# Altium integrated library Linear Technology Power Management Hot Swap Controllers.IntLib: 992 symbols (part 86 of 93)
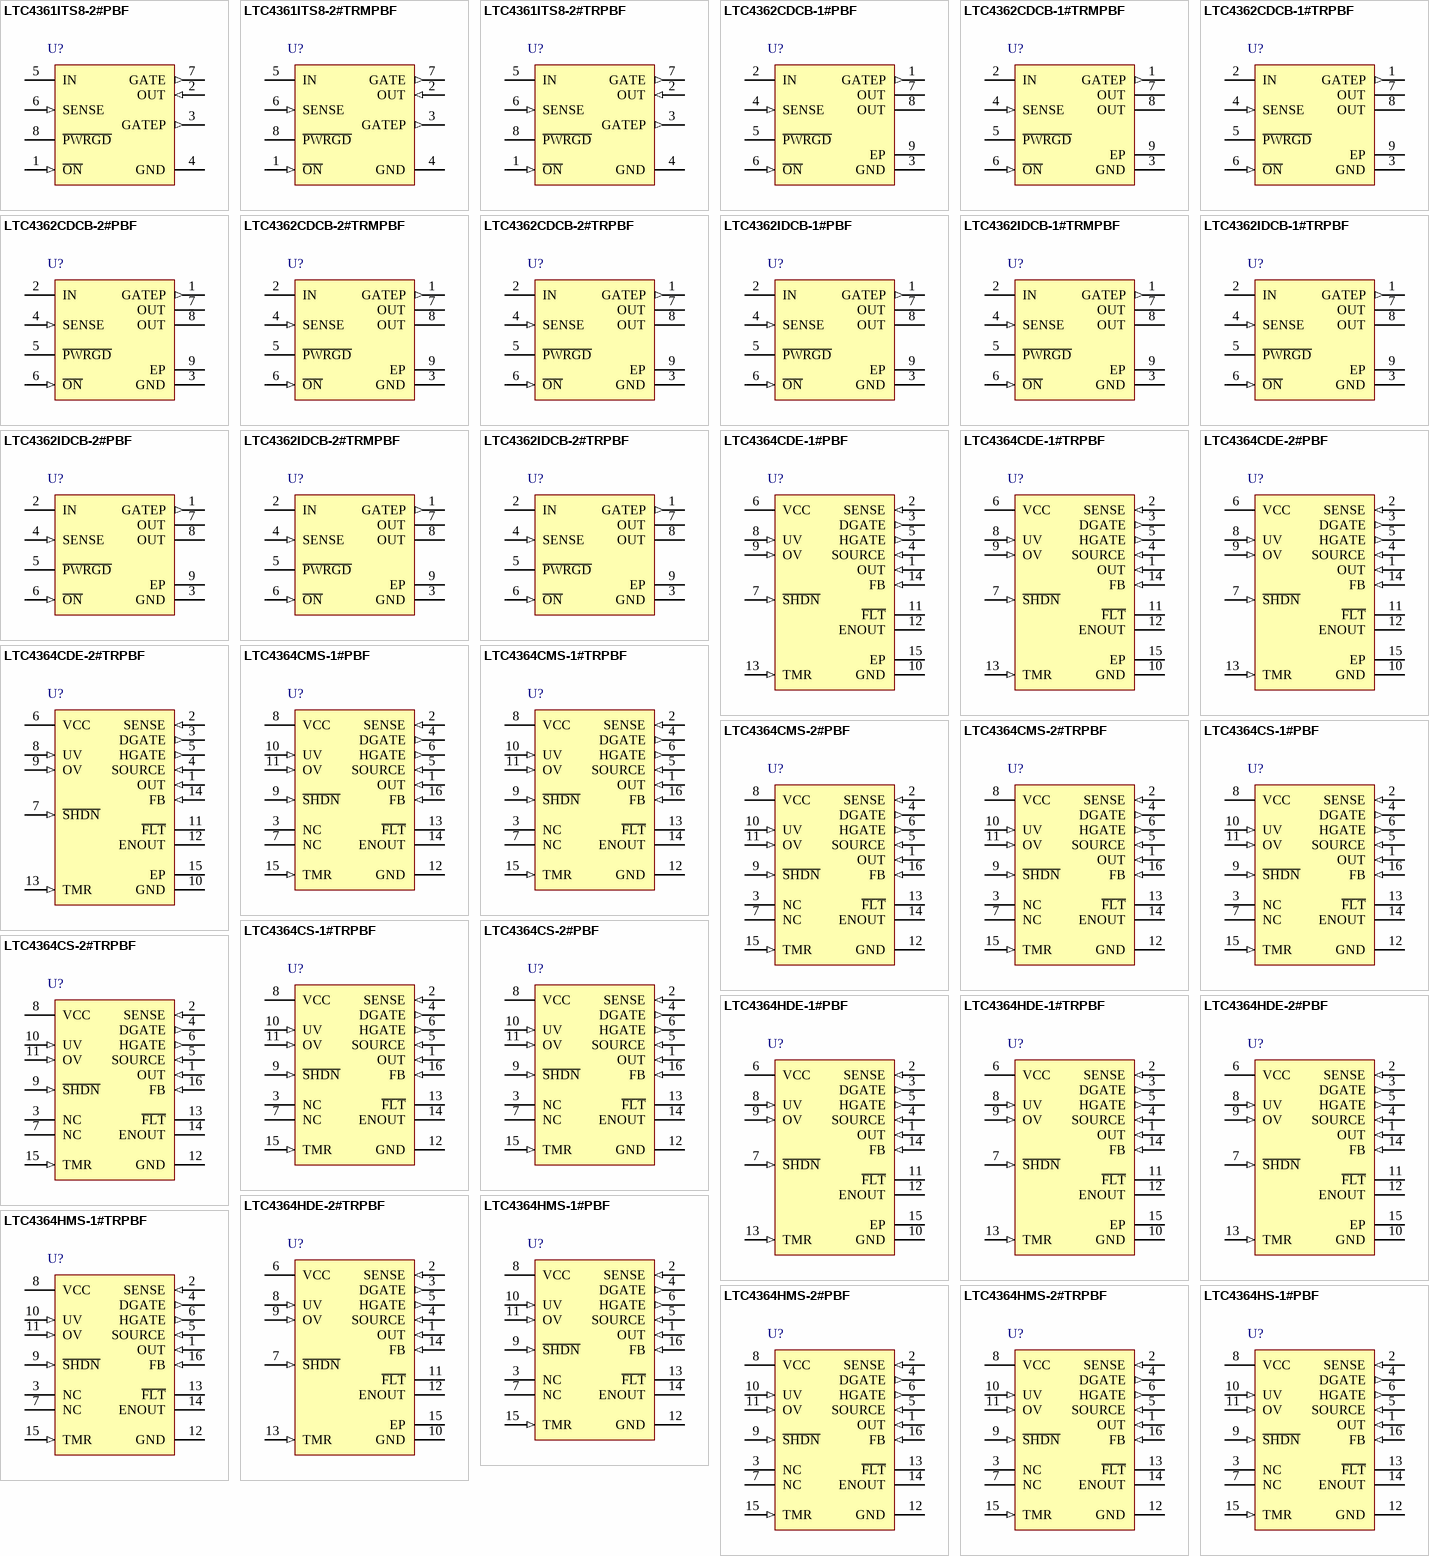
[diagram p122: symbols LTC4361ITS8-2#PBF to LTC4364HS-1#PBF]

## LTC4364CDE-2#TRPBF
designator U?
Surge Stopper with Ideal Diode, 4 to 80 V Vin, 14-pin SON (DE-14), 0 to 70 degC, Pb-Free, Tape and Reel; Manufacturer: Linear Technology; PartNumber: LTC4364CDE-2#TRPBF; Circuit Breaker Accuracy(%): 10; Circuit Breaker Threshold: 50 mV; Circuit Breakers(#): 1; Extended Temp: C, I, H; Fast Comparator: no; Vin Range: 4 to 80 V; PackageVersion: Rev. B, 06/2010; PackageReference: DE-14; PackageDescription: 14-Pin Plastic DFN, Body 4 x 3 mm, Pitch 0.5 mm; Supplier 1: Digi-Key; Supplier Part Number 1: LTC4364CDE-2#TRPBF-ND; Supplier 2: Newark; Supplier Part Number 2: 27W9462; Packing: Tape and Reel; Power Good: no; RoHS: TRUE; Mounting Technology: Surface Mount; Code_JEDEC: MO-229; ComponentLink1Description: Manufacturer URL; ComponentLink1URL: http://www.linear.com/; ComponentLink2Description: Datasheet; ComponentLink2URL: http://cds.linear.com/docs/en/datasheet/436412f.pdf; ComponentLink3Description: Package Specification; ComponentLink3URL: http://www.linear.com/docs/en/packaging/DFN_14_05-08-1708.pdf
footprint LT-DE-14_V (SON, 14-Leads, Body 4x3mm, Pitch 0.5mm, Thermal Pad 3.3x1.7mm)
pins: 1 OUT (in) "Output Voltage Sense Input. This pin senses the voltage at the drain of the external N-channel MOSFET connected to the DGATE pin. The voltage difference between VCC and OUT sets the fault timer current. When this difference (See Datasheet)", 2 SENSE (in) "Current Sense Input. Connect this pin to the input side of the current sense resistor. The current limit circuit controls the HGATE pin to limit the sense voltage between the SENSE and OUT pins to 50mV if OUT is above 2.5V. (See Datasheet)", 3 DGATE (out) "Diode Controller Gate Drive Output. When the load current creates more than 30mV of drop across the MOSFET, the DGATE pin is pulled high by an internal charge pump current source and clamped to 12V above the SOURCE pin. When (See Datasheet)", 4 SOURCE (in) "Common Source Input and Gate Drive Return. Connect this pin directly to the sources of the external back-to-back N-channel MOSFETs. SOURCE is the anode of the ideal diode and the voltage sensed between this pin and the SENSE (See Datasheet)", 5 HGATE (out) "Surge Stopper Gate Drive Output. The HGATE pin is pulled up by an internal charge pump current source and clamped to 12V above the SOURCE pin. Both voltage and current amplifiers control the HGATE pin to regulate the output (See Datasheet)", 6 VCC (power) "Positive Supply Voltage Input. The positive supply input ranges from 4V to 80V for normal operation. It can also be pulled below ground potential by up to 40V during a reverse battery condition, without damaging the part. (See Datasheet)", 7 ~{SHDN} (in) "Shutdown Control Input. Pulling the S\H\D\N\ pin below 0.5V shuts off the LTC4364 and reduces the VCC pin current to 10uA. Pull this pin above 2.2V or disconnect it to allow the internal current source to turn the part back (See Datasheet)", 8 UV (in) "Undervoltage Comparator Input. When the UV pin falls below its 1.25V threshold, the HGATE pin is pulled down with a 1mA current. When the UV pin rises above 1.25V plus the hysteresis, the HGATE pin is pulled up by the (See Datasheet)", 9 OV (in) "Overvoltage Comparator Input. When OV is above its threshold of 1.25V, the fault retry function is inhibited. When OV falls below its threshold, the HGATE pin is allowed to turn back on when fault conditions are cleared. At (See Datasheet)", 10 GND (power) "Device Ground.", 11 ~{FLT} (hiz) "Fault Output. An open-drain output that pulls low after the TMR pin reaches the warning threshold of 1.25V. It indicates the pass device controlled by the HGATE pin is about to turn off because either the supply voltage has (See Datasheet)", 12 ENOUT (hiz) "Enable Output. An open-drain output that goes high impedance when the voltage at the OUT pin is above (VCC - 0.7V), indicating the external MOSFETs are fully on. The state of the pin is latched and resets when the OUT pin (See Datasheet)", 13 TMR (in) "Fault Timer Input. Connect a capacitor between this pin and ground to set the times for fault warning, fault turn-off, and cool down periods. Either voltage regulation or current regulation starts pulling up the TMR pin. The (See Datasheet)", 14 FB (in) "Voltage Regulator Feedback Input. Connect this pin to the resistive divider connected between the OUT pin and ground. During an overvoltage condition, the HGATE pin is controlled to maintain 1.25V at the FB pin. Connect to (See Datasheet)", 15 EP (power) "Exposed pad may be left open or connected to device ground (GND)."

## LTC4364CMS-1#PBF
designator U?
Surge Stopper with Ideal Diode, 4 to 80 V Vin, 16-pin SOP (MS-16), 0 to 70 degC, Pb-Free; Manufacturer: Linear Technology; PartNumber: LTC4364CMS-1#PBF; Circuit Breaker Accuracy(%): 10; Circuit Breaker Threshold: 50 mV; Circuit Breakers(#): 1; Extended Temp: C, I, H; Fast Comparator: no; Vin Range: 4 to 80 V; PackageVersion: Rev. Ø, 06/2010; PackageReference: MS16; PackageDescription: 16-Pin Plastic MSOP, Body 4.04 x 3.00 mm, Pitch 0.50 mm; Supplier 1: Digi-Key; Supplier Part Number 1: LTC4364CMS-1#PBF-ND; Supplier 2: Newark; Supplier Part Number 2: 27W9463; Power Good: no; RoHS: TRUE; Mounting Technology: Surface Mount; ComponentLink1Description: Manufacturer URL; ComponentLink1URL: http://www.linear.com/; ComponentLink2Description: Datasheet; ComponentLink2URL: http://cds.linear.com/docs/en/datasheet/436412f.pdf; ComponentLink3Description: Package Specification; ComponentLink3URL: http://cds.linear.com/docs/en/packaging/05081669_A_MS16.pdf
footprint LT-MS-16_N (SOP, 16-Leads, Body 4.1x3.1mm, Pitch 0.5mm, IPC Medium Density)
footprint LT-MS-16_L (SOP, 16-Leads, Body 4.1x3.1mm, Pitch 0.5mm, IPC High Density)
footprint LT-MS-16_M (SOP, 16-Leads, Body 4.1x3.1mm, Pitch 0.5mm, IPC Low Density)
pins: 1 OUT (in) "Output Voltage Sense Input. This pin senses the voltage at the drain of the external N-channel MOSFET connected to the DGATE pin. The voltage difference between VCC and OUT sets the fault timer current. When this difference (See Datasheet)", 2 SENSE (in) "Current Sense Input. Connect this pin to the input side of the current sense resistor. The current limit circuit controls the HGATE pin to limit the sense voltage between the SENSE and OUT pins to 50mV if OUT is above 2.5V. (See Datasheet)", 3 NC, 4 DGATE (out) "Diode Controller Gate Drive Output. When the load current creates more than 30mV of drop across the MOSFET, the DGATE pin is pulled high by an internal charge pump current source and clamped to 12V above the SOURCE pin. When (See Datasheet)", 5 SOURCE (in) "Common Source Input and Gate Drive Return. Connect this pin directly to the sources of the external back-to-back N-channel MOSFETs. SOURCE is the anode of the ideal diode and the voltage sensed between this pin and the SENSE (See Datasheet)", 6 HGATE (out) "Surge Stopper Gate Drive Output. The HGATE pin is pulled up by an internal charge pump current source and clamped to 12V above the SOURCE pin. Both voltage and current amplifiers control the HGATE pin to regulate the output (See Datasheet)", 7 NC, 8 VCC (power) "Positive Supply Voltage Input. The positive supply input ranges from 4V to 80V for normal operation. It can also be pulled below ground potential by up to 40V during a reverse battery condition, without damaging the part. (See Datasheet)", 9 ~{SHDN} (in) "Shutdown Control Input. Pulling the S\H\D\N\ pin below 0.5V shuts off the LTC4364 and reduces the VCC pin current to 10uA. Pull this pin above 2.2V or disconnect it to allow the internal current source to turn the part back (See Datasheet)", 10 UV (in) "Undervoltage Comparator Input. When the UV pin falls below its 1.25V threshold, the HGATE pin is pulled down with a 1mA current. When the UV pin rises above 1.25V plus the hysteresis, the HGATE pin is pulled up by the (See Datasheet)", 11 OV (in) "Overvoltage Comparator Input. When OV is above its threshold of 1.25V, the fault retry function is inhibited. When OV falls below its threshold, the HGATE pin is allowed to turn back on when fault conditions are cleared. At (See Datasheet)", 12 GND (power) "Device Ground.", 13 ~{FLT} (hiz) "Fault Output. An open-drain output that pulls low after the TMR pin reaches the warning threshold of 1.25V. It indicates the pass device controlled by the HGATE pin is about to turn off because either the supply voltage has (See Datasheet)", 14 ENOUT (hiz) "Enable Output. An open-drain output that goes high impedance when the voltage at the OUT pin is above (VCC - 0.7V), indicating the external MOSFETs are fully on. The state of the pin is latched and resets when the OUT pin (See Datasheet)", 15 TMR (in) "Fault Timer Input. Connect a capacitor between this pin and ground to set the times for fault warning, fault turn-off, and cool down periods. Either voltage regulation or current regulation starts pulling up the TMR pin. The (See Datasheet)", 16 FB (in) "Voltage Regulator Feedback Input. Connect this pin to the resistive divider connected between the OUT pin and ground. During an overvoltage condition, the HGATE pin is controlled to maintain 1.25V at the FB pin. Connect to (See Datasheet)"

## LTC4364CMS-1#TRPBF
designator U?
Surge Stopper with Ideal Diode, 4 to 80 V Vin, 16-pin SOP (MS-16), 0 to 70 degC, Pb-Free, Tape and Reel; Manufacturer: Linear Technology; PartNumber: LTC4364CMS-1#TRPBF; Circuit Breaker Accuracy(%): 10; Circuit Breaker Threshold: 50 mV; Circuit Breakers(#): 1; Extended Temp: C, I, H; Fast Comparator: no; Vin Range: 4 to 80 V; PackageVersion: Rev. Ø, 06/2010; PackageReference: MS16; PackageDescription: 16-Pin Plastic MSOP, Body 4.04 x 3.00 mm, Pitch 0.50 mm; Supplier 1: Digi-Key; Supplier Part Number 1: LTC4364CMS-1#TRPBF-ND; Supplier 2: Newark; Supplier Part Number 2: 27W9464; Packing: Tape and Reel; Power Good: no; RoHS: TRUE; Mounting Technology: Surface Mount; ComponentLink1Description: Manufacturer URL; ComponentLink1URL: http://www.linear.com/; ComponentLink2Description: Datasheet; ComponentLink2URL: http://cds.linear.com/docs/en/datasheet/436412f.pdf; ComponentLink3Description: Package Specification; ComponentLink3URL: http://cds.linear.com/docs/en/packaging/05081669_A_MS16.pdf
footprint LT-MS-16_N (SOP, 16-Leads, Body 4.1x3.1mm, Pitch 0.5mm, IPC Medium Density)
footprint LT-MS-16_L (SOP, 16-Leads, Body 4.1x3.1mm, Pitch 0.5mm, IPC High Density)
footprint LT-MS-16_M (SOP, 16-Leads, Body 4.1x3.1mm, Pitch 0.5mm, IPC Low Density)
pins: 1 OUT (in) "Output Voltage Sense Input. This pin senses the voltage at the drain of the external N-channel MOSFET connected to the DGATE pin. The voltage difference between VCC and OUT sets the fault timer current. When this difference (See Datasheet)", 2 SENSE (in) "Current Sense Input. Connect this pin to the input side of the current sense resistor. The current limit circuit controls the HGATE pin to limit the sense voltage between the SENSE and OUT pins to 50mV if OUT is above 2.5V. (See Datasheet)", 3 NC, 4 DGATE (out) "Diode Controller Gate Drive Output. When the load current creates more than 30mV of drop across the MOSFET, the DGATE pin is pulled high by an internal charge pump current source and clamped to 12V above the SOURCE pin. When (See Datasheet)", 5 SOURCE (in) "Common Source Input and Gate Drive Return. Connect this pin directly to the sources of the external back-to-back N-channel MOSFETs. SOURCE is the anode of the ideal diode and the voltage sensed between this pin and the SENSE (See Datasheet)", 6 HGATE (out) "Surge Stopper Gate Drive Output. The HGATE pin is pulled up by an internal charge pump current source and clamped to 12V above the SOURCE pin. Both voltage and current amplifiers control the HGATE pin to regulate the output (See Datasheet)", 7 NC, 8 VCC (power) "Positive Supply Voltage Input. The positive supply input ranges from 4V to 80V for normal operation. It can also be pulled below ground potential by up to 40V during a reverse battery condition, without damaging the part. (See Datasheet)", 9 ~{SHDN} (in) "Shutdown Control Input. Pulling the S\H\D\N\ pin below 0.5V shuts off the LTC4364 and reduces the VCC pin current to 10uA. Pull this pin above 2.2V or disconnect it to allow the internal current source to turn the part back (See Datasheet)", 10 UV (in) "Undervoltage Comparator Input. When the UV pin falls below its 1.25V threshold, the HGATE pin is pulled down with a 1mA current. When the UV pin rises above 1.25V plus the hysteresis, the HGATE pin is pulled up by the (See Datasheet)", 11 OV (in) "Overvoltage Comparator Input. When OV is above its threshold of 1.25V, the fault retry function is inhibited. When OV falls below its threshold, the HGATE pin is allowed to turn back on when fault conditions are cleared. At (See Datasheet)", 12 GND (power) "Device Ground.", 13 ~{FLT} (hiz) "Fault Output. An open-drain output that pulls low after the TMR pin reaches the warning threshold of 1.25V. It indicates the pass device controlled by the HGATE pin is about to turn off because either the supply voltage has (See Datasheet)", 14 ENOUT (hiz) "Enable Output. An open-drain output that goes high impedance when the voltage at the OUT pin is above (VCC - 0.7V), indicating the external MOSFETs are fully on. The state of the pin is latched and resets when the OUT pin (See Datasheet)", 15 TMR (in) "Fault Timer Input. Connect a capacitor between this pin and ground to set the times for fault warning, fault turn-off, and cool down periods. Either voltage regulation or current regulation starts pulling up the TMR pin. The (See Datasheet)", 16 FB (in) "Voltage Regulator Feedback Input. Connect this pin to the resistive divider connected between the OUT pin and ground. During an overvoltage condition, the HGATE pin is controlled to maintain 1.25V at the FB pin. Connect to (See Datasheet)"

## LTC4364CMS-2#PBF
designator U?
Surge Stopper with Ideal Diode, 4 to 80 V Vin, 16-pin SOP (MS-16), 0 to 70 degC, Pb-Free; Manufacturer: Linear Technology; PartNumber: LTC4364CMS-2#PBF; Circuit Breaker Accuracy(%): 10; Circuit Breaker Threshold: 50 mV; Circuit Breakers(#): 1; Extended Temp: C, I, H; Fast Comparator: no; Vin Range: 4 to 80 V; PackageVersion: Rev. Ø, 06/2010; PackageReference: MS16; PackageDescription: 16-Pin Plastic MSOP, Body 4.04 x 3.00 mm, Pitch 0.50 mm; Supplier 1: Digi-Key; Supplier Part Number 1: LTC4364CMS-2#PBF-ND; Supplier 2: Newark; Supplier Part Number 2: 27W9465; Power Good: no; RoHS: TRUE; Mounting Technology: Surface Mount; ComponentLink1Description: Manufacturer URL; ComponentLink1URL: http://www.linear.com/; ComponentLink2Description: Datasheet; ComponentLink2URL: http://cds.linear.com/docs/en/datasheet/436412f.pdf; ComponentLink3Description: Package Specification; ComponentLink3URL: http://cds.linear.com/docs/en/packaging/05081669_A_MS16.pdf
footprint LT-MS-16_N (SOP, 16-Leads, Body 4.1x3.1mm, Pitch 0.5mm, IPC Medium Density)
footprint LT-MS-16_L (SOP, 16-Leads, Body 4.1x3.1mm, Pitch 0.5mm, IPC High Density)
footprint LT-MS-16_M (SOP, 16-Leads, Body 4.1x3.1mm, Pitch 0.5mm, IPC Low Density)
pins: 1 OUT (in) "Output Voltage Sense Input. This pin senses the voltage at the drain of the external N-channel MOSFET connected to the DGATE pin. The voltage difference between VCC and OUT sets the fault timer current. When this difference (See Datasheet)", 2 SENSE (in) "Current Sense Input. Connect this pin to the input side of the current sense resistor. The current limit circuit controls the HGATE pin to limit the sense voltage between the SENSE and OUT pins to 50mV if OUT is above 2.5V. (See Datasheet)", 3 NC, 4 DGATE (out) "Diode Controller Gate Drive Output. When the load current creates more than 30mV of drop across the MOSFET, the DGATE pin is pulled high by an internal charge pump current source and clamped to 12V above the SOURCE pin. When (See Datasheet)", 5 SOURCE (in) "Common Source Input and Gate Drive Return. Connect this pin directly to the sources of the external back-to-back N-channel MOSFETs. SOURCE is the anode of the ideal diode and the voltage sensed between this pin and the SENSE (See Datasheet)", 6 HGATE (out) "Surge Stopper Gate Drive Output. The HGATE pin is pulled up by an internal charge pump current source and clamped to 12V above the SOURCE pin. Both voltage and current amplifiers control the HGATE pin to regulate the output (See Datasheet)", 7 NC, 8 VCC (power) "Positive Supply Voltage Input. The positive supply input ranges from 4V to 80V for normal operation. It can also be pulled below ground potential by up to 40V during a reverse battery condition, without damaging the part. (See Datasheet)", 9 ~{SHDN} (in) "Shutdown Control Input. Pulling the S\H\D\N\ pin below 0.5V shuts off the LTC4364 and reduces the VCC pin current to 10uA. Pull this pin above 2.2V or disconnect it to allow the internal current source to turn the part back (See Datasheet)", 10 UV (in) "Undervoltage Comparator Input. When the UV pin falls below its 1.25V threshold, the HGATE pin is pulled down with a 1mA current. When the UV pin rises above 1.25V plus the hysteresis, the HGATE pin is pulled up by the (See Datasheet)", 11 OV (in) "Overvoltage Comparator Input. When OV is above its threshold of 1.25V, the fault retry function is inhibited. When OV falls below its threshold, the HGATE pin is allowed to turn back on when fault conditions are cleared. At (See Datasheet)", 12 GND (power) "Device Ground.", 13 ~{FLT} (hiz) "Fault Output. An open-drain output that pulls low after the TMR pin reaches the warning threshold of 1.25V. It indicates the pass device controlled by the HGATE pin is about to turn off because either the supply voltage has (See Datasheet)", 14 ENOUT (hiz) "Enable Output. An open-drain output that goes high impedance when the voltage at the OUT pin is above (VCC - 0.7V), indicating the external MOSFETs are fully on. The state of the pin is latched and resets when the OUT pin (See Datasheet)", 15 TMR (in) "Fault Timer Input. Connect a capacitor between this pin and ground to set the times for fault warning, fault turn-off, and cool down periods. Either voltage regulation or current regulation starts pulling up the TMR pin. The (See Datasheet)", 16 FB (in) "Voltage Regulator Feedback Input. Connect this pin to the resistive divider connected between the OUT pin and ground. During an overvoltage condition, the HGATE pin is controlled to maintain 1.25V at the FB pin. Connect to (See Datasheet)"

## LTC4364CMS-2#TRPBF
designator U?
Surge Stopper with Ideal Diode, 4 to 80 V Vin, 16-pin SOP (MS-16), 0 to 70 degC, Pb-Free, Tape and Reel; Manufacturer: Linear Technology; PartNumber: LTC4364CMS-2#TRPBF; Circuit Breaker Accuracy(%): 10; Circuit Breaker Threshold: 50 mV; Circuit Breakers(#): 1; Extended Temp: C, I, H; Fast Comparator: no; Vin Range: 4 to 80 V; PackageVersion: Rev. Ø, 06/2010; PackageReference: MS16; PackageDescription: 16-Pin Plastic MSOP, Body 4.04 x 3.00 mm, Pitch 0.50 mm; Supplier 1: Digi-Key; Supplier Part Number 1: LTC4364CMS-2#TRPBF-ND; Supplier 2: Newark; Supplier Part Number 2: 27W9466; Packing: Tape and Reel; Power Good: no; RoHS: TRUE; Mounting Technology: Surface Mount; ComponentLink1Description: Manufacturer URL; ComponentLink1URL: http://www.linear.com/; ComponentLink2Description: Datasheet; ComponentLink2URL: http://cds.linear.com/docs/en/datasheet/436412f.pdf; ComponentLink3Description: Package Specification; ComponentLink3URL: http://cds.linear.com/docs/en/packaging/05081669_A_MS16.pdf
footprint LT-MS-16_N (SOP, 16-Leads, Body 4.1x3.1mm, Pitch 0.5mm, IPC Medium Density)
footprint LT-MS-16_L (SOP, 16-Leads, Body 4.1x3.1mm, Pitch 0.5mm, IPC High Density)
footprint LT-MS-16_M (SOP, 16-Leads, Body 4.1x3.1mm, Pitch 0.5mm, IPC Low Density)
pins: 1 OUT (in) "Output Voltage Sense Input. This pin senses the voltage at the drain of the external N-channel MOSFET connected to the DGATE pin. The voltage difference between VCC and OUT sets the fault timer current. When this difference (See Datasheet)", 2 SENSE (in) "Current Sense Input. Connect this pin to the input side of the current sense resistor. The current limit circuit controls the HGATE pin to limit the sense voltage between the SENSE and OUT pins to 50mV if OUT is above 2.5V. (See Datasheet)", 3 NC, 4 DGATE (out) "Diode Controller Gate Drive Output. When the load current creates more than 30mV of drop across the MOSFET, the DGATE pin is pulled high by an internal charge pump current source and clamped to 12V above the SOURCE pin. When (See Datasheet)", 5 SOURCE (in) "Common Source Input and Gate Drive Return. Connect this pin directly to the sources of the external back-to-back N-channel MOSFETs. SOURCE is the anode of the ideal diode and the voltage sensed between this pin and the SENSE (See Datasheet)", 6 HGATE (out) "Surge Stopper Gate Drive Output. The HGATE pin is pulled up by an internal charge pump current source and clamped to 12V above the SOURCE pin. Both voltage and current amplifiers control the HGATE pin to regulate the output (See Datasheet)", 7 NC, 8 VCC (power) "Positive Supply Voltage Input. The positive supply input ranges from 4V to 80V for normal operation. It can also be pulled below ground potential by up to 40V during a reverse battery condition, without damaging the part. (See Datasheet)", 9 ~{SHDN} (in) "Shutdown Control Input. Pulling the S\H\D\N\ pin below 0.5V shuts off the LTC4364 and reduces the VCC pin current to 10uA. Pull this pin above 2.2V or disconnect it to allow the internal current source to turn the part back (See Datasheet)", 10 UV (in) "Undervoltage Comparator Input. When the UV pin falls below its 1.25V threshold, the HGATE pin is pulled down with a 1mA current. When the UV pin rises above 1.25V plus the hysteresis, the HGATE pin is pulled up by the (See Datasheet)", 11 OV (in) "Overvoltage Comparator Input. When OV is above its threshold of 1.25V, the fault retry function is inhibited. When OV falls below its threshold, the HGATE pin is allowed to turn back on when fault conditions are cleared. At (See Datasheet)", 12 GND (power) "Device Ground.", 13 ~{FLT} (hiz) "Fault Output. An open-drain output that pulls low after the TMR pin reaches the warning threshold of 1.25V. It indicates the pass device controlled by the HGATE pin is about to turn off because either the supply voltage has (See Datasheet)", 14 ENOUT (hiz) "Enable Output. An open-drain output that goes high impedance when the voltage at the OUT pin is above (VCC - 0.7V), indicating the external MOSFETs are fully on. The state of the pin is latched and resets when the OUT pin (See Datasheet)", 15 TMR (in) "Fault Timer Input. Connect a capacitor between this pin and ground to set the times for fault warning, fault turn-off, and cool down periods. Either voltage regulation or current regulation starts pulling up the TMR pin. The (See Datasheet)", 16 FB (in) "Voltage Regulator Feedback Input. Connect this pin to the resistive divider connected between the OUT pin and ground. During an overvoltage condition, the HGATE pin is controlled to maintain 1.25V at the FB pin. Connect to (See Datasheet)"

## LTC4364CS-1#PBF
designator U?
Surge Stopper with Ideal Diode, 4 to 80 V Vin, 16-pin SOP (S-16), 0 to 70 degC, Pb-Free; Manufacturer: Linear Technology; PartNumber: LTC4364CS-1#PBF; Circuit Breaker Accuracy(%): 10; Circuit Breaker Threshold: 50 mV; Circuit Breakers(#): 1; Extended Temp: C, I, H; Fast Comparator: no; Vin Range: 4 to 80 V; PackageVersion: Rev. G, 05/2012; PackageReference: S-16; PackageDescription: 16-Pin Plastic Small Outline, Body 9.9 x 3.9 mm, Pitch 1.27 mm; Supplier 1: Digi-Key; Supplier Part Number 1: LTC4364CS-1#PBF-ND; Supplier 2: Newark; Supplier Part Number 2: 27W9467; Power Good: no; RoHS: TRUE; Mounting Technology: Surface Mount; ComponentLink1Description: Manufacturer URL; ComponentLink1URL: http://www.linear.com/; ComponentLink2Description: Datasheet; ComponentLink2URL: http://cds.linear.com/docs/en/datasheet/436412f.pdf; ComponentLink3Description: Package Specification; ComponentLink3URL: http://cds.linear.com/docs/en/packaging/S16%2005-08-1610%20Rev%20G.pdf
footprint LT-S-16_N (SOP, 16-Leads, Body 10x4mm, Pitch 1.27mm, IPC Medium Density)
footprint LT-S-16_L (SOP, 16-Leads, Body 10x4mm, Pitch 1.27mm, IPC High Density)
footprint LT-S-16_M (SOP, 16-Leads, Body 10x4mm, Pitch 1.27mm, IPC Low Density)
pins: 1 OUT (in) "Output Voltage Sense Input. This pin senses the voltage at the drain of the external N-channel MOSFET connected to the DGATE pin. The voltage difference between VCC and OUT sets the fault timer current. When this difference (See Datasheet)", 2 SENSE (in) "Current Sense Input. Connect this pin to the input side of the current sense resistor. The current limit circuit controls the HGATE pin to limit the sense voltage between the SENSE and OUT pins to 50mV if OUT is above 2.5V. (See Datasheet)", 3 NC, 4 DGATE (out) "Diode Controller Gate Drive Output. When the load current creates more than 30mV of drop across the MOSFET, the DGATE pin is pulled high by an internal charge pump current source and clamped to 12V above the SOURCE pin. When (See Datasheet)", 5 SOURCE (in) "Common Source Input and Gate Drive Return. Connect this pin directly to the sources of the external back-to-back N-channel MOSFETs. SOURCE is the anode of the ideal diode and the voltage sensed between this pin and the SENSE (See Datasheet)", 6 HGATE (out) "Surge Stopper Gate Drive Output. The HGATE pin is pulled up by an internal charge pump current source and clamped to 12V above the SOURCE pin. Both voltage and current amplifiers control the HGATE pin to regulate the output (See Datasheet)", 7 NC, 8 VCC (power) "Positive Supply Voltage Input. The positive supply input ranges from 4V to 80V for normal operation. It can also be pulled below ground potential by up to 40V during a reverse battery condition, without damaging the part. (See Datasheet)", 9 ~{SHDN} (in) "Shutdown Control Input. Pulling the S\H\D\N\ pin below 0.5V shuts off the LTC4364 and reduces the VCC pin current to 10uA. Pull this pin above 2.2V or disconnect it to allow the internal current source to turn the part back (See Datasheet)", 10 UV (in) "Undervoltage Comparator Input. When the UV pin falls below its 1.25V threshold, the HGATE pin is pulled down with a 1mA current. When the UV pin rises above 1.25V plus the hysteresis, the HGATE pin is pulled up by the (See Datasheet)", 11 OV (in) "Overvoltage Comparator Input. When OV is above its threshold of 1.25V, the fault retry function is inhibited. When OV falls below its threshold, the HGATE pin is allowed to turn back on when fault conditions are cleared. At (See Datasheet)", 12 GND (power) "Device Ground.", 13 ~{FLT} (hiz) "Fault Output. An open-drain output that pulls low after the TMR pin reaches the warning threshold of 1.25V. It indicates the pass device controlled by the HGATE pin is about to turn off because either the supply voltage has (See Datasheet)", 14 ENOUT (hiz) "Enable Output. An open-drain output that goes high impedance when the voltage at the OUT pin is above (VCC - 0.7V), indicating the external MOSFETs are fully on. The state of the pin is latched and resets when the OUT pin (See Datasheet)", 15 TMR (in) "Fault Timer Input. Connect a capacitor between this pin and ground to set the times for fault warning, fault turn-off, and cool down periods. Either voltage regulation or current regulation starts pulling up the TMR pin. The (See Datasheet)", 16 FB (in) "Voltage Regulator Feedback Input. Connect this pin to the resistive divider connected between the OUT pin and ground. During an overvoltage condition, the HGATE pin is controlled to maintain 1.25V at the FB pin. Connect to (See Datasheet)"

## LTC4364CS-1#TRPBF
designator U?
Surge Stopper with Ideal Diode, 4 to 80 V Vin, 16-pin SOP (S-16), 0 to 70 degC, Pb-Free, Tape and Reel; Manufacturer: Linear Technology; PartNumber: LTC4364CS-1#TRPBF; Circuit Breaker Accuracy(%): 10; Circuit Breaker Threshold: 50 mV; Circuit Breakers(#): 1; Extended Temp: C, I, H; Fast Comparator: no; Vin Range: 4 to 80 V; PackageVersion: Rev. G, 05/2012; PackageReference: S-16; PackageDescription: 16-Pin Plastic Small Outline, Body 9.9 x 3.9 mm, Pitch 1.27 mm; Supplier 1: Digi-Key; Supplier Part Number 1: LTC4364CS-1#TRPBF-ND; Supplier 2: Newark; Supplier Part Number 2: 27W9468; Packing: Tape and Reel; Power Good: no; RoHS: TRUE; Mounting Technology: Surface Mount; ComponentLink1Description: Manufacturer URL; ComponentLink1URL: http://www.linear.com/; ComponentLink2Description: Datasheet; ComponentLink2URL: http://cds.linear.com/docs/en/datasheet/436412f.pdf; ComponentLink3Description: Package Specification; ComponentLink3URL: http://cds.linear.com/docs/en/packaging/S16%2005-08-1610%20Rev%20G.pdf
footprint LT-S-16_N (SOP, 16-Leads, Body 10x4mm, Pitch 1.27mm, IPC Medium Density)
footprint LT-S-16_L (SOP, 16-Leads, Body 10x4mm, Pitch 1.27mm, IPC High Density)
footprint LT-S-16_M (SOP, 16-Leads, Body 10x4mm, Pitch 1.27mm, IPC Low Density)
pins: 1 OUT (in) "Output Voltage Sense Input. This pin senses the voltage at the drain of the external N-channel MOSFET connected to the DGATE pin. The voltage difference between VCC and OUT sets the fault timer current. When this difference (See Datasheet)", 2 SENSE (in) "Current Sense Input. Connect this pin to the input side of the current sense resistor. The current limit circuit controls the HGATE pin to limit the sense voltage between the SENSE and OUT pins to 50mV if OUT is above 2.5V. (See Datasheet)", 3 NC, 4 DGATE (out) "Diode Controller Gate Drive Output. When the load current creates more than 30mV of drop across the MOSFET, the DGATE pin is pulled high by an internal charge pump current source and clamped to 12V above the SOURCE pin. When (See Datasheet)", 5 SOURCE (in) "Common Source Input and Gate Drive Return. Connect this pin directly to the sources of the external back-to-back N-channel MOSFETs. SOURCE is the anode of the ideal diode and the voltage sensed between this pin and the SENSE (See Datasheet)", 6 HGATE (out) "Surge Stopper Gate Drive Output. The HGATE pin is pulled up by an internal charge pump current source and clamped to 12V above the SOURCE pin. Both voltage and current amplifiers control the HGATE pin to regulate the output (See Datasheet)", 7 NC, 8 VCC (power) "Positive Supply Voltage Input. The positive supply input ranges from 4V to 80V for normal operation. It can also be pulled below ground potential by up to 40V during a reverse battery condition, without damaging the part. (See Datasheet)", 9 ~{SHDN} (in) "Shutdown Control Input. Pulling the S\H\D\N\ pin below 0.5V shuts off the LTC4364 and reduces the VCC pin current to 10uA. Pull this pin above 2.2V or disconnect it to allow the internal current source to turn the part back (See Datasheet)", 10 UV (in) "Undervoltage Comparator Input. When the UV pin falls below its 1.25V threshold, the HGATE pin is pulled down with a 1mA current. When the UV pin rises above 1.25V plus the hysteresis, the HGATE pin is pulled up by the (See Datasheet)", 11 OV (in) "Overvoltage Comparator Input. When OV is above its threshold of 1.25V, the fault retry function is inhibited. When OV falls below its threshold, the HGATE pin is allowed to turn back on when fault conditions are cleared. At (See Datasheet)", 12 GND (power) "Device Ground.", 13 ~{FLT} (hiz) "Fault Output. An open-drain output that pulls low after the TMR pin reaches the warning threshold of 1.25V. It indicates the pass device controlled by the HGATE pin is about to turn off because either the supply voltage has (See Datasheet)", 14 ENOUT (hiz) "Enable Output. An open-drain output that goes high impedance when the voltage at the OUT pin is above (VCC - 0.7V), indicating the external MOSFETs are fully on. The state of the pin is latched and resets when the OUT pin (See Datasheet)", 15 TMR (in) "Fault Timer Input. Connect a capacitor between this pin and ground to set the times for fault warning, fault turn-off, and cool down periods. Either voltage regulation or current regulation starts pulling up the TMR pin. The (See Datasheet)", 16 FB (in) "Voltage Regulator Feedback Input. Connect this pin to the resistive divider connected between the OUT pin and ground. During an overvoltage condition, the HGATE pin is controlled to maintain 1.25V at the FB pin. Connect to (See Datasheet)"

## LTC4364CS-2#PBF
designator U?
Surge Stopper with Ideal Diode, 4 to 80 V Vin, 16-pin SOP (S-16), 0 to 70 degC, Pb-Free; Manufacturer: Linear Technology; PartNumber: LTC4364CS-2#PBF; Circuit Breaker Accuracy(%): 10; Circuit Breaker Threshold: 50 mV; Circuit Breakers(#): 1; Extended Temp: C, I, H; Fast Comparator: no; Vin Range: 4 to 80 V; PackageVersion: Rev. G, 05/2012; PackageReference: S-16; PackageDescription: 16-Pin Plastic Small Outline, Body 9.9 x 3.9 mm, Pitch 1.27 mm; Supplier 1: Digi-Key; Supplier Part Number 1: LTC4364CS-2#PBF-ND; Supplier 2: Newark; Supplier Part Number 2: 27W9469; Power Good: no; RoHS: TRUE; Mounting Technology: Surface Mount; ComponentLink1Description: Manufacturer URL; ComponentLink1URL: http://www.linear.com/; ComponentLink2Description: Datasheet; ComponentLink2URL: http://cds.linear.com/docs/en/datasheet/436412f.pdf; ComponentLink3Description: Package Specification; ComponentLink3URL: http://cds.linear.com/docs/en/packaging/S16%2005-08-1610%20Rev%20G.pdf
footprint LT-S-16_N (SOP, 16-Leads, Body 10x4mm, Pitch 1.27mm, IPC Medium Density)
footprint LT-S-16_L (SOP, 16-Leads, Body 10x4mm, Pitch 1.27mm, IPC High Density)
footprint LT-S-16_M (SOP, 16-Leads, Body 10x4mm, Pitch 1.27mm, IPC Low Density)
pins: 1 OUT (in) "Output Voltage Sense Input. This pin senses the voltage at the drain of the external N-channel MOSFET connected to the DGATE pin. The voltage difference between VCC and OUT sets the fault timer current. When this difference (See Datasheet)", 2 SENSE (in) "Current Sense Input. Connect this pin to the input side of the current sense resistor. The current limit circuit controls the HGATE pin to limit the sense voltage between the SENSE and OUT pins to 50mV if OUT is above 2.5V. (See Datasheet)", 3 NC, 4 DGATE (out) "Diode Controller Gate Drive Output. When the load current creates more than 30mV of drop across the MOSFET, the DGATE pin is pulled high by an internal charge pump current source and clamped to 12V above the SOURCE pin. When (See Datasheet)", 5 SOURCE (in) "Common Source Input and Gate Drive Return. Connect this pin directly to the sources of the external back-to-back N-channel MOSFETs. SOURCE is the anode of the ideal diode and the voltage sensed between this pin and the SENSE (See Datasheet)", 6 HGATE (out) "Surge Stopper Gate Drive Output. The HGATE pin is pulled up by an internal charge pump current source and clamped to 12V above the SOURCE pin. Both voltage and current amplifiers control the HGATE pin to regulate the output (See Datasheet)", 7 NC, 8 VCC (power) "Positive Supply Voltage Input. The positive supply input ranges from 4V to 80V for normal operation. It can also be pulled below ground potential by up to 40V during a reverse battery condition, without damaging the part. (See Datasheet)", 9 ~{SHDN} (in) "Shutdown Control Input. Pulling the S\H\D\N\ pin below 0.5V shuts off the LTC4364 and reduces the VCC pin current to 10uA. Pull this pin above 2.2V or disconnect it to allow the internal current source to turn the part back (See Datasheet)", 10 UV (in) "Undervoltage Comparator Input. When the UV pin falls below its 1.25V threshold, the HGATE pin is pulled down with a 1mA current. When the UV pin rises above 1.25V plus the hysteresis, the HGATE pin is pulled up by the (See Datasheet)", 11 OV (in) "Overvoltage Comparator Input. When OV is above its threshold of 1.25V, the fault retry function is inhibited. When OV falls below its threshold, the HGATE pin is allowed to turn back on when fault conditions are cleared. At (See Datasheet)", 12 GND (power) "Device Ground.", 13 ~{FLT} (hiz) "Fault Output. An open-drain output that pulls low after the TMR pin reaches the warning threshold of 1.25V. It indicates the pass device controlled by the HGATE pin is about to turn off because either the supply voltage has (See Datasheet)", 14 ENOUT (hiz) "Enable Output. An open-drain output that goes high impedance when the voltage at the OUT pin is above (VCC - 0.7V), indicating the external MOSFETs are fully on. The state of the pin is latched and resets when the OUT pin (See Datasheet)", 15 TMR (in) "Fault Timer Input. Connect a capacitor between this pin and ground to set the times for fault warning, fault turn-off, and cool down periods. Either voltage regulation or current regulation starts pulling up the TMR pin. The (See Datasheet)", 16 FB (in) "Voltage Regulator Feedback Input. Connect this pin to the resistive divider connected between the OUT pin and ground. During an overvoltage condition, the HGATE pin is controlled to maintain 1.25V at the FB pin. Connect to (See Datasheet)"

## LTC4364CS-2#TRPBF
designator U?
Surge Stopper with Ideal Diode, 4 to 80 V Vin, 16-pin SOP (S-16), 0 to 70 degC, Pb-Free, Tape and Reel; Manufacturer: Linear Technology; PartNumber: LTC4364CS-2#TRPBF; Circuit Breaker Accuracy(%): 10; Circuit Breaker Threshold: 50 mV; Circuit Breakers(#): 1; Extended Temp: C, I, H; Fast Comparator: no; Vin Range: 4 to 80 V; PackageVersion: Rev. G, 05/2012; PackageReference: S-16; PackageDescription: 16-Pin Plastic Small Outline, Body 9.9 x 3.9 mm, Pitch 1.27 mm; Supplier 1: Digi-Key; Supplier Part Number 1: LTC4364CS-2#TRPBF-ND; Supplier 2: Newark; Supplier Part Number 2: 27W9470; Packing: Tape and Reel; Power Good: no; RoHS: TRUE; Mounting Technology: Surface Mount; ComponentLink1Description: Manufacturer URL; ComponentLink1URL: http://www.linear.com/; ComponentLink2Description: Datasheet; ComponentLink2URL: http://cds.linear.com/docs/en/datasheet/436412f.pdf; ComponentLink3Description: Package Specification; ComponentLink3URL: http://cds.linear.com/docs/en/packaging/S16%2005-08-1610%20Rev%20G.pdf
footprint LT-S-16_N (SOP, 16-Leads, Body 10x4mm, Pitch 1.27mm, IPC Medium Density)
footprint LT-S-16_L (SOP, 16-Leads, Body 10x4mm, Pitch 1.27mm, IPC High Density)
footprint LT-S-16_M (SOP, 16-Leads, Body 10x4mm, Pitch 1.27mm, IPC Low Density)
pins: 1 OUT (in) "Output Voltage Sense Input. This pin senses the voltage at the drain of the external N-channel MOSFET connected to the DGATE pin. The voltage difference between VCC and OUT sets the fault timer current. When this difference (See Datasheet)", 2 SENSE (in) "Current Sense Input. Connect this pin to the input side of the current sense resistor. The current limit circuit controls the HGATE pin to limit the sense voltage between the SENSE and OUT pins to 50mV if OUT is above 2.5V. (See Datasheet)", 3 NC, 4 DGATE (out) "Diode Controller Gate Drive Output. When the load current creates more than 30mV of drop across the MOSFET, the DGATE pin is pulled high by an internal charge pump current source and clamped to 12V above the SOURCE pin. When (See Datasheet)", 5 SOURCE (in) "Common Source Input and Gate Drive Return. Connect this pin directly to the sources of the external back-to-back N-channel MOSFETs. SOURCE is the anode of the ideal diode and the voltage sensed between this pin and the SENSE (See Datasheet)", 6 HGATE (out) "Surge Stopper Gate Drive Output. The HGATE pin is pulled up by an internal charge pump current source and clamped to 12V above the SOURCE pin. Both voltage and current amplifiers control the HGATE pin to regulate the output (See Datasheet)", 7 NC, 8 VCC (power) "Positive Supply Voltage Input. The positive supply input ranges from 4V to 80V for normal operation. It can also be pulled below ground potential by up to 40V during a reverse battery condition, without damaging the part. (See Datasheet)", 9 ~{SHDN} (in) "Shutdown Control Input. Pulling the S\H\D\N\ pin below 0.5V shuts off the LTC4364 and reduces the VCC pin current to 10uA. Pull this pin above 2.2V or disconnect it to allow the internal current source to turn the part back (See Datasheet)", 10 UV (in) "Undervoltage Comparator Input. When the UV pin falls below its 1.25V threshold, the HGATE pin is pulled down with a 1mA current. When the UV pin rises above 1.25V plus the hysteresis, the HGATE pin is pulled up by the (See Datasheet)", 11 OV (in) "Overvoltage Comparator Input. When OV is above its threshold of 1.25V, the fault retry function is inhibited. When OV falls below its threshold, the HGATE pin is allowed to turn back on when fault conditions are cleared. At (See Datasheet)", 12 GND (power) "Device Ground.", 13 ~{FLT} (hiz) "Fault Output. An open-drain output that pulls low after the TMR pin reaches the warning threshold of 1.25V. It indicates the pass device controlled by the HGATE pin is about to turn off because either the supply voltage has (See Datasheet)", 14 ENOUT (hiz) "Enable Output. An open-drain output that goes high impedance when the voltage at the OUT pin is above (VCC - 0.7V), indicating the external MOSFETs are fully on. The state of the pin is latched and resets when the OUT pin (See Datasheet)", 15 TMR (in) "Fault Timer Input. Connect a capacitor between this pin and ground to set the times for fault warning, fault turn-off, and cool down periods. Either voltage regulation or current regulation starts pulling up the TMR pin. The (See Datasheet)", 16 FB (in) "Voltage Regulator Feedback Input. Connect this pin to the resistive divider connected between the OUT pin and ground. During an overvoltage condition, the HGATE pin is controlled to maintain 1.25V at the FB pin. Connect to (See Datasheet)"

## LTC4364HDE-1#PBF
designator U?
Surge Stopper with Ideal Diode, 4 to 80 V Vin, 14-pin SON (DE-14), -40 to 125 degC, Pb-Free; Manufacturer: Linear Technology; PartNumber: LTC4364HDE-1#PBF; Active Limiting: yes; Circuit Breaker Accuracy(%): 10; Circuit Breaker Threshold: 50 mV; Circuit Breakers(#): 1; Extended Temp: C, I, H; Fast Comparator: no; Vin Range: 4 to 80 V; PackageVersion: Rev. B, 06/2010; PackageReference: DE-14; PackageDescription: 14-Pin Plastic DFN, Body 4 x 3 mm, Pitch 0.5 mm; Supplier 1: Digi-Key; Supplier Part Number 1: LTC4364HDE-1#PBF-ND; Supplier 2: Farnell; Supplier Part Number 2: 2215142; Supplier 3: Newark; Supplier Part Number 3: 27W9471; Power Good: no; RoHS: TRUE; Mounting Technology: Surface Mount; Code_JEDEC: MO-229; ComponentLink1Description: Manufacturer URL; ComponentLink1URL: http://www.linear.com/; ComponentLink2Description: Datasheet; ComponentLink2URL: http://cds.linear.com/docs/en/datasheet/436412f.pdf; ComponentLink3Description: Package Specification; ComponentLink3URL: http://www.linear.com/docs/en/packaging/DFN_14_05-08-1708.pdf
footprint LT-DE-14_V (SON, 14-Leads, Body 4x3mm, Pitch 0.5mm, Thermal Pad 3.3x1.7mm)
pins: 1 OUT (in) "Output Voltage Sense Input. This pin senses the voltage at the drain of the external N-channel MOSFET connected to the DGATE pin. The voltage difference between VCC and OUT sets the fault timer current. When this difference (See Datasheet)", 2 SENSE (in) "Current Sense Input. Connect this pin to the input side of the current sense resistor. The current limit circuit controls the HGATE pin to limit the sense voltage between the SENSE and OUT pins to 50mV if OUT is above 2.5V. (See Datasheet)", 3 DGATE (out) "Diode Controller Gate Drive Output. When the load current creates more than 30mV of drop across the MOSFET, the DGATE pin is pulled high by an internal charge pump current source and clamped to 12V above the SOURCE pin. When (See Datasheet)", 4 SOURCE (in) "Common Source Input and Gate Drive Return. Connect this pin directly to the sources of the external back-to-back N-channel MOSFETs. SOURCE is the anode of the ideal diode and the voltage sensed between this pin and the SENSE (See Datasheet)", 5 HGATE (out) "Surge Stopper Gate Drive Output. The HGATE pin is pulled up by an internal charge pump current source and clamped to 12V above the SOURCE pin. Both voltage and current amplifiers control the HGATE pin to regulate the output (See Datasheet)", 6 VCC (power) "Positive Supply Voltage Input. The positive supply input ranges from 4V to 80V for normal operation. It can also be pulled below ground potential by up to 40V during a reverse battery condition, without damaging the part. (See Datasheet)", 7 ~{SHDN} (in) "Shutdown Control Input. Pulling the S\H\D\N\ pin below 0.5V shuts off the LTC4364 and reduces the VCC pin current to 10uA. Pull this pin above 2.2V or disconnect it to allow the internal current source to turn the part back (See Datasheet)", 8 UV (in) "Undervoltage Comparator Input. When the UV pin falls below its 1.25V threshold, the HGATE pin is pulled down with a 1mA current. When the UV pin rises above 1.25V plus the hysteresis, the HGATE pin is pulled up by the (See Datasheet)", 9 OV (in) "Overvoltage Comparator Input. When OV is above its threshold of 1.25V, the fault retry function is inhibited. When OV falls below its threshold, the HGATE pin is allowed to turn back on when fault conditions are cleared. At (See Datasheet)", 10 GND (power) "Device Ground.", 11 ~{FLT} (hiz) "Fault Output. An open-drain output that pulls low after the TMR pin reaches the warning threshold of 1.25V. It indicates the pass device controlled by the HGATE pin is about to turn off because either the supply voltage has (See Datasheet)", 12 ENOUT (hiz) "Enable Output. An open-drain output that goes high impedance when the voltage at the OUT pin is above (VCC - 0.7V), indicating the external MOSFETs are fully on. The state of the pin is latched and resets when the OUT pin (See Datasheet)", 13 TMR (in) "Fault Timer Input. Connect a capacitor between this pin and ground to set the times for fault warning, fault turn-off, and cool down periods. Either voltage regulation or current regulation starts pulling up the TMR pin. The (See Datasheet)", 14 FB (in) "Voltage Regulator Feedback Input. Connect this pin to the resistive divider connected between the OUT pin and ground. During an overvoltage condition, the HGATE pin is controlled to maintain 1.25V at the FB pin. Connect to (See Datasheet)", 15 EP (power) "Exposed pad may be left open or connected to device ground (GND)."